# EAGLE library part THUMBPOINTER-RKJXV1224005 (library Controller)
ThumbPointer - RK JXV1224005 This is a joystick very similar to the joysticks on Xbox One and PS4 controllers. Directional movements are simply two potentiometers - one for each axis. Pots are ~10k each. This joystick also has a select button that is actuated when the joystick is pressed down. Additional Information <https://www.alps.com/prod/info/E/HTML/MultiControl/Potentiometer/RKJXK/RKJXV1224005.html>
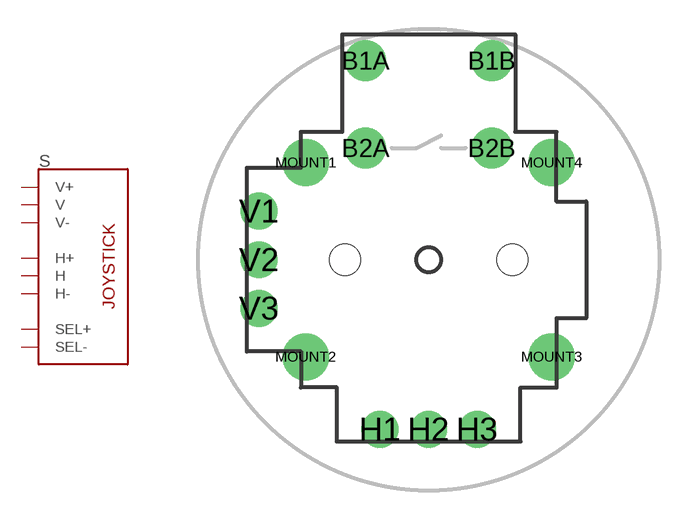
[diagram p2: symbol with the pads of THUMBPOINTER-RKJXV1224005; footprint THUMBPOINTER-RKJXV1224005]

Designator prefix S

## THUMBPOINTER-RKJXV1224005 (PROD_ID: RKJXV1224005)  [THUMBPOINTER-RKJXV1224005]
B1A  SEL+
B2A  SEL-
H1  H+
H2  H
H3  H-
V1  V+
V2  V
V3  V-

## Footprint THUMBPOINTER-RKJXV1224005 (pad centres in mm)
ThumbPointer - RK JXV1224005 This is a joystick very similar to the joysticks on Xbox One and PS4 controllers. Directional movements are simply two potentiometers - one for each axis. Pots are ~10k each. This joystick also has a select button that is actuated when the joystick is pressed down. Additional Information <https://www.alps.com/prod/info/E/HTML/MultiControl/Potentiometer/RKJXK/RKJXV1224005.html>
drill 1.2 pad 2.1: B1A -3.25,10.25; B1B 3.25,10.25; B2A -3.25,5.75; B2B 3.25,5.75
drill 1 pad 1.9: H1 -2.5,-8.73; H2 0,-8.73; H3 2.5,-8.73; V1 -8.73,2.5; V2 -8.73,0; V3 -8.73,-2.5
drill 1.5 pad 2.4: MOUNT1 -6.325,5; MOUNT2 -6.325,-5; MOUNT3 6.325,-5; MOUNT4 6.325,5
hole 1.6 at -4.3,0
hole 1.6 at 4.3,0